# Altium integrated library Diode_Schottky~SOD-323P.IntLib: 1 symbol
Pins are listed as number, name and electrical type; pins without a type are passive.

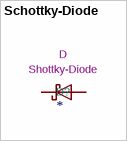
[diagram p0: symbol Schottky-Diode]

## Schottky-Diode
designator D?  value Shottky-Diode  Reference: D
ki_keywords: Schottky; ki_description: Schottky Diode; Datasheet: https://diotec.com/de/produktliste/SBD.html
footprint SOD-323P
pins: A, K